# Altium footprint library 杂项库.PcbLib: 585 footprints (part 32 of 37)
Each footprint in its own frame and in the unit in brackets; x right, y up, seen from the top. Pads: shape width x height; smd on the part's side, far side on the other; paste and mask are expansions set on the pad; w line width, h text height; cw(c..) or ccw(c..) is an arc to the next point about the centre after c.
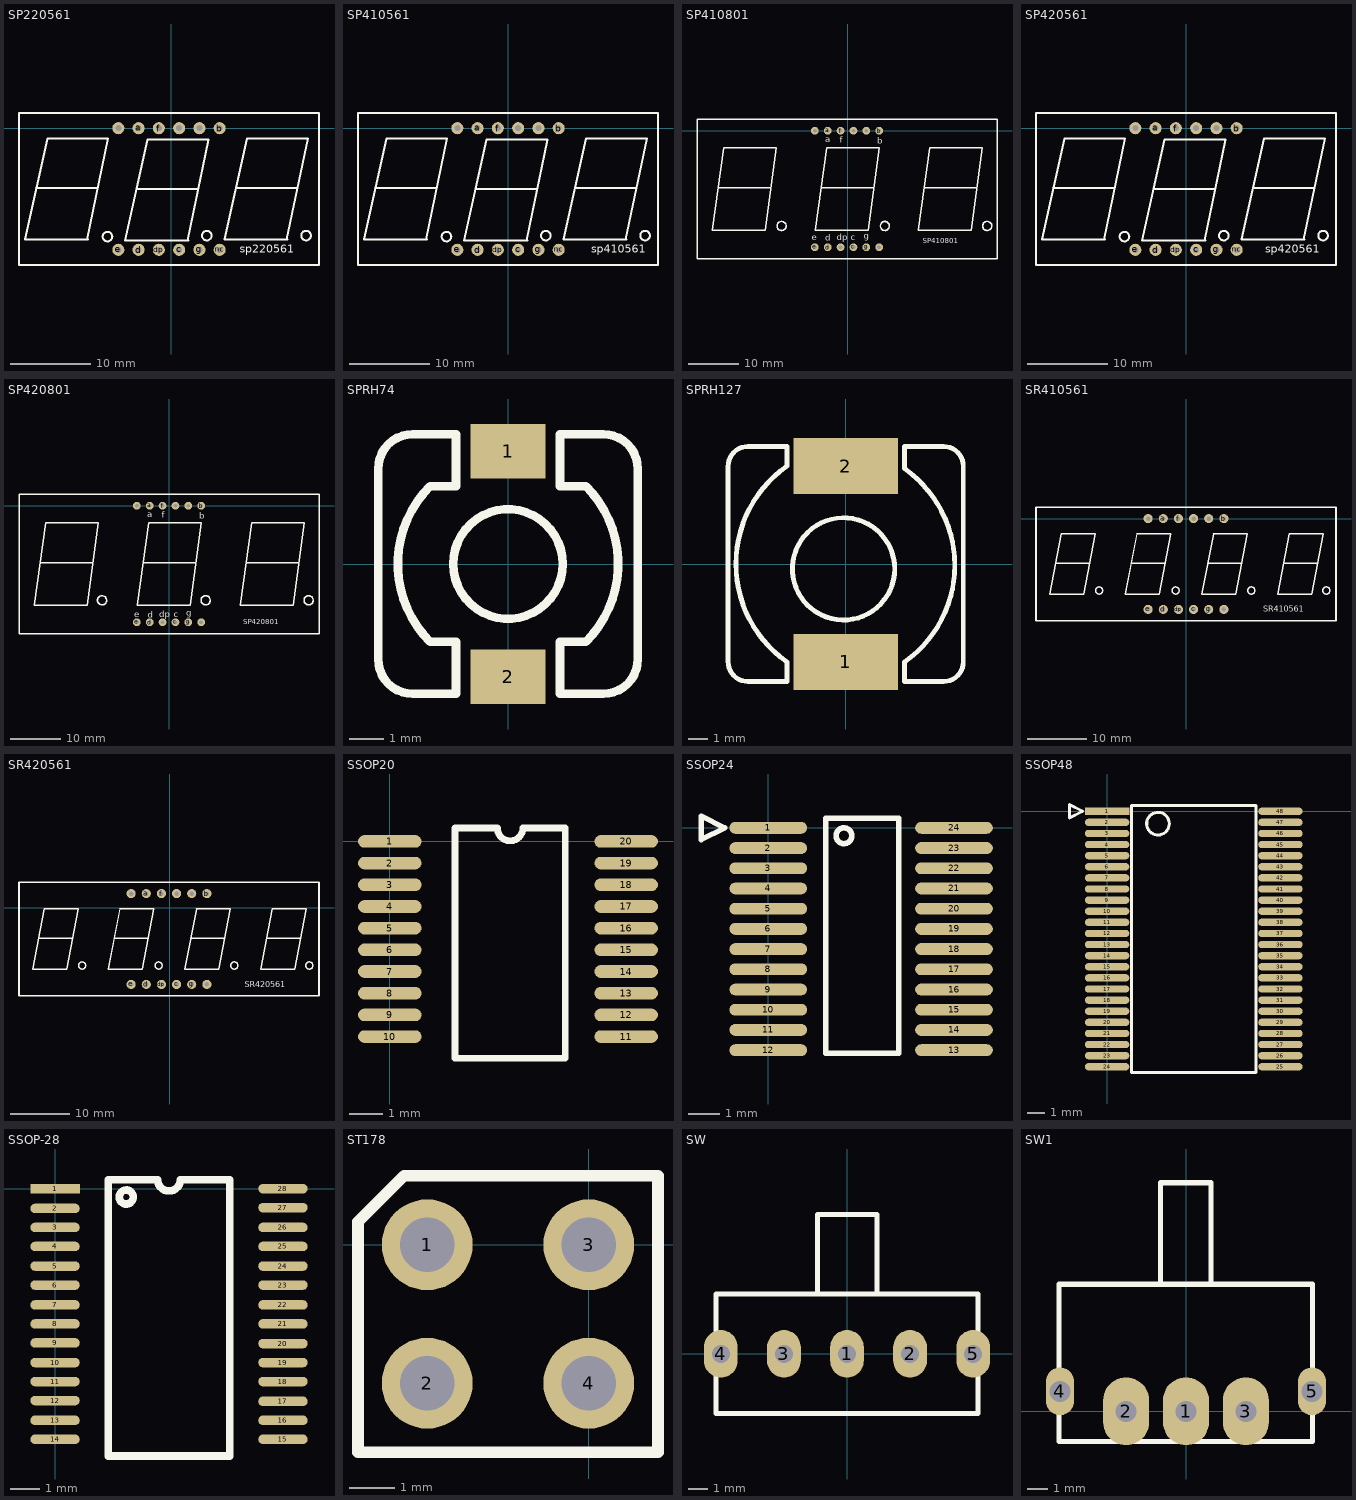
[diagram p31: the footprints below, top view; thin cyan lines are the x and y axes]

## SP220561 [mil]
pads (12):
  round 60 hole 30: a(-160,0) b(240,0) c(40,-600) com1(-260,0) com2(40,0) com3(140,0) d(-160,-600) dp(-60,-600) e(-260,-600) f(-60,0) g(140,-600) nc(240,-600)
Top Overlay:
  circle w10: c-313.62,-535 r23.62
  circle w10: c176.38,-530 r23.62
  circle w10: c666.38,-530 r23.62
  lines w10: -721.34,-550 -610,-50 -310,-50 -414.38,-550 ; -718.66,-550 -410,-550 ; -665,-295 -365,-295 ; -226.34,-555 -115,-55 185,-55 80.62,-555 ; -223.66,-555 85,-555 ; -170,-300 130,-300 ; 263.66,-550 375,-50 675,-50 570.62,-550 ; 266.34,-550 575,-550 ; 320,-295 620,-295 ; -750.16,-674.02 730.16,-674.02 730.16,74.02 -750.16,74.02 -750.16,-674.02
  text "sp220561" at 340,-615 h39.37

## SP410561 [mil]
pads (12):
  round 60 hole 30: a(-150,0) b(250,0) c(50,-600) com1(-250,0) com2(50,0) com3(150,0) d(-150,-600) dp(-50,-600) e(-250,-600) f(-50,0) g(150,-600) nc(250,-600)
Top Overlay:
  circle w10: c-303.62,-535 r23.62
  circle w10: c186.38,-530 r23.62
  circle w10: c676.38,-530 r23.62
  lines w10: -711.34,-550 -600,-50 -300,-50 -404.38,-550 ; -708.66,-550 -400,-550 ; -655,-295 -355,-295 ; -216.34,-555 -105,-55 195,-55 90.62,-555 ; -213.66,-555 95,-555 ; -160,-300 140,-300 ; 273.66,-550 385,-50 685,-50 580.62,-550 ; 276.34,-550 585,-550 ; 330,-295 630,-295 ; -740.16,-674.02 740.16,-674.02 740.16,74.02 -740.16,74.02 -740.16,-674.02
  text "sp410561" at 410,-615 h39.37

## SP410801 [mil]
pads (12):
  round 60 hole 30: a(-155,0) b(245,0) c(45,-905.51) com1(-255,0) com2(45,0) com3(145,0) d(-155,-905.51) dp(-55,-905.51) e(-255,-905.51) f(-55,0) g(145,-905.51) nc(245,-905.51)
Top Overlay:
  circle w10: c-513.08,-740 r35.43
  circle w10: c289.57,-740 r35.43
  circle w10: c1084.57,-740 r35.43
  lines w8: -1007.2,-439.37 -1003.26,-443.31 ; -597.75,-443.31 -593.81,-439.37 ; -207.2,-439.37 -203.26,-443.31 ; 202.25,-443.31 206.19,-439.37 ; 592.8,-439.37 596.74,-443.31 ; 1002.25,-443.31 1006.19,-439.37
  lines w10: -1003.26,-443.31 -597.75,-443.31 ; -203.26,-443.31 202.25,-443.31 ; 596.74,-443.31 1002.25,-443.31 ; -1170.35,-994.1 -1170.35,88.58 1160.35,88.58 1160.35,-994.1 -1170.35,-994.1 ; -1050.5,-774.02 -641.05,-774.02 -554.44,-132.28 -963.89,-132.28 -1050.5,-774.02 ; -250.5,-774.02 158.94,-774.02 245.56,-132.28 -163.89,-132.28 -250.5,-774.02 ; 549.5,-774.02 958.95,-774.02 1045.56,-132.28 636.11,-132.28 549.5,-774.02
  text "a" at -175,-90 h47.24
  text "f" at -60,-95 h47.24
  text "b" at 230,-100 h47.24
  text "SP410801" at 585,-875 h40
  text "g" at 125,-840 h47.24
  text "c" at 25,-850 h47.24
  text "dp" at -85,-850 h47.24
  text "d" at -175,-855 h47.24
  text "e" at -280,-850 h47.24

## SP420561 [mil]
pads (12):
  round 60 hole 30: a(-150,0) b(250,0) c(50,-600) com1(-250,0) com2(50,0) com3(150,0) d(-150,-600) dp(-50,-600) e(-250,-600) f(-50,0) g(150,-600) nc(250,-600)
Top Overlay:
  circle w10: c676.38,-530 r23.62
  circle w10: c186.38,-530 r23.62
  circle w10: c-303.62,-535 r23.62
  lines w10: -711.34,-550 -600,-50 -300,-50 -404.38,-550 ; -708.66,-550 -400,-550 ; -655,-295 -355,-295 ; -216.34,-555 -105,-55 195,-55 90.62,-555 ; -213.66,-555 95,-555 ; -160,-300 140,-300 ; 273.66,-550 385,-50 685,-50 580.62,-550 ; 276.34,-550 585,-550 ; 330,-295 630,-295 ; -740.16,-674.02 -740.16,74.02 740.16,74.02 740.16,-674.02 -740.16,-674.02
  text "sp420561" at 390,-615 h39.76

## SP420801 [mil]
pads (12):
  round 60 hole 30: a(-150,0) b(250,0) c(50,-905.51) com1(-250,0) com2(50,0) com3(150,0) d(-150,-905.51) dp(-50,-905.51) e(-250,-905.51) f(-50,0) g(150,-905.51) nc(250,-905.51)
Top Overlay:
  circle w10: c-520.43,-735 r35.43
  circle w10: c284.57,-735 r35.43
  circle w10: c1084.57,-735 r35.43
  lines w8: -1002.2,-439.37 -998.26,-443.31 ; -592.75,-443.31 -588.81,-439.37 ; -202.2,-439.37 -198.26,-443.31 ; 207.25,-443.31 211.19,-439.37 ; 597.8,-439.37 601.74,-443.31 ; 1007.25,-443.31 1011.19,-439.37
  lines w10: -998.26,-443.31 -592.75,-443.31 ; -198.26,-443.31 207.25,-443.31 ; 601.74,-443.31 1007.25,-443.31 ; -1165.35,-994.1 1165.35,-994.1 1165.35,88.58 -1165.35,88.58 -1165.35,-994.1 ; -1045.5,-774.02 -958.89,-132.28 -549.44,-132.28 -636.05,-774.02 -1045.5,-774.02 ; -245.5,-774.02 -158.89,-132.28 250.56,-132.28 163.94,-774.02 -245.5,-774.02 ; 554.5,-774.02 641.11,-132.28 1050.56,-132.28 963.95,-774.02 554.5,-774.02
  text "SP420801" at 575,-920 h40
  text "e" at -270,-865 h47.24
  text "d" at -165,-870 h47.24
  text "dp" at -75,-865 h47.24
  text "c" at 35,-865 h47.24
  text "g" at 135,-855 h47.24
  text "b" at 235,-100 h47.24
  text "f" at -55,-95 h47.24
  text "a" at -170,-90 h47.24

## SPRH74 [mm]
pads (2):
  rect 2.2x1.6 smd: 1(0,3.302) 2(0,-3.302)
Top Overlay:
  circle w0.254: c0,0 r1.606
  lines w0.254: -3.81,-2.794 ccw(c-2.794,-2.794) -2.794,-3.81 -1.524,-3.81 -1.524,-2.286 -2.286,-2.286 cw(c0,0) -2.286,2.286 -1.524,2.286 -1.524,3.81 -2.794,3.81 ccw(c-2.794,2.794) -3.81,2.794 -3.81,-2.794 ; 1.524,-3.81 2.794,-3.81 ccw(c2.794,-2.794) 3.81,-2.794 3.81,2.794 ccw(c2.794,2.794) 2.794,3.81 1.524,3.81 1.524,2.286 2.286,2.286 cw(c0,0) 2.286,-2.286 1.524,-2.286 1.524,-3.81

## SPRH127 [mm]
pads (2):
  rect 5.4x2.9 smd: 1(0,-5.08) 2(0,5.08)
Top Overlay:
  circle w0.254: c-0.112,-0.254 r2.652
  lines w0.254: -6.096,-5.08 ccw(c-5.08,-5.08) -5.08,-6.096 -3.048,-6.096 -3.048,-5.08 cw(c0.508,0) -3.048,5.08 -3.048,6.096 -5.08,6.096 ccw(c-5.08,5.08) -6.096,5.08 -6.096,-5.08 ; 3.048,-6.096 5.08,-6.096 ccw(c5.08,-5.08) 6.096,-5.08 6.096,5.08 ccw(c5.08,5.08) 5.08,6.096 3.048,6.096 3.048,4.943 cw(c-0.46,-0.069) 3.048,-5.08 3.048,-6.096

## SR410561 [mil]
pads (12):
  round 60 hole 30: a(-150,0) b(250,0) c(50,-600) com1(-250,0) com2(50,0) com3(150,0) com4(250,-600) d(-150,-600) dp(-50,-600) e(-250,-600) f(-50,0) g(150,-600)
Top Overlay:
  circle w10: c-573.62,-475 r23.62
  circle w10: c-68.62,-475 r23.62
  circle w10: c431.38,-475 r23.62
  circle w10: c926.38,-475 r23.62
  lines w10: -854.33,-295 -640,-295 ; -358.27,-295 -140,-295 ; 145.67,-295 365,-295 ; 645.67,-295 865,-295 ; -990.16,-674.02 990.16,-674.02 990.16,74.02 -990.16,74.02 -990.16,-674.02 ; -900,-500 -823.46,-100 -600,-100 -676.54,-500 -900,-500 ; -400,-500 -323.45,-100 -100,-100 -176.54,-500 -400,-500 ; 105,-500 181.54,-100 405,-100 328.45,-500 105,-500 ; 605,-500 681.54,-100 905,-100 828.46,-500 605,-500
  text "SR410561" at 510,-615 h39.37

## SR420561 [mil]
pads (12):
  round 60 hole 30: a(-155,95) b(245,95) c(45,-505) com1(-255,95) com2(45,95) com3(145,95) com4(245,-505) d(-155,-505) dp(-55,-505) e(-255,-505) f(-55,95) g(145,-505)
Top Overlay:
  circle w10: c921.38,-380 r23.62
  circle w10: c426.38,-380 r23.62
  circle w10: c-73.62,-380 r23.62
  circle w10: c-578.62,-380 r23.62
  lines w10: -859.33,-200 -645,-200 ; -363.27,-200 -145,-200 ; 140.67,-200 360,-200 ; 640.67,-200 860,-200 ; -995.16,-579.02 -995.16,169.02 985.16,169.02 985.16,-579.02 -995.16,-579.02 ; -905,-405 -681.54,-405 -605,-5 -828.46,-5 -905,-405 ; -405,-405 -181.54,-405 -105,-5 -328.45,-5 -405,-405 ; 100,-405 323.45,-405 400,-5 176.54,-5 100,-405 ; 600,-405 823.46,-405 900,-5 676.54,-5 600,-405
  text "SR420561" at 495,-525 h39.37

## SSOP20 [mm]
pads (20):
  oval 1.905x0.38 smd: 1(0,0) 2(0,-0.65) 3(0,-1.3) 4(0,-1.95) 5(0,-2.6) 6(0,-3.25) 7(0,-3.9) 8(0,-4.55) 9(0,-5.2) 10(0,-5.85) 11(7.087,-5.85) 12(7.087,-5.2) 13(7.087,-4.55) 14(7.087,-3.9) 15(7.087,-3.25) 16(7.087,-2.6) 17(7.087,-1.95) 18(7.087,-1.3) 19(7.087,-0.65) 20(7.087,0)
Top Overlay:
  lines w0.203: 1.956,-6.502 1.956,0.398 3.226,0.398 ccw(c3.607,0.398) 3.988,0.398 5.258,0.398 5.258,-6.502 1.956,-6.502

## SSOP24 [mm]
pads (24):
  oval 2.5x0.381 smd: 1(0,0) 2(0,-0.65) 3(0,-1.3) 4(0,-1.95) 5(0,-2.6) 6(0,-3.25) 7(0,-3.9) 8(0,-4.55) 9(0,-5.2) 10(0,-5.85) 11(0,-6.5) 12(0,-7.15) 13(5.975,-7.15) 14(5.975,-6.5) 15(5.975,-5.85) 16(5.975,-5.2) 17(5.975,-4.55) 18(5.975,-3.9) 19(5.975,-3.25) 20(5.975,-2.6) 21(5.975,-1.95) 22(5.975,-1.3) 23(5.975,-0.65) 24(5.975,0)
Top Overlay:
  circle w0.178: c2.434,-0.254 r0.254
  lines w0.178: -2.159,-0.381 -1.397,0 -2.159,0.381 -2.159,-0.381 ; 1.852,-7.245 4.198,-7.245 4.198,0.315 1.852,0.315 1.852,-7.245

## SSOP48 [mm]
pads (48):
  rect 2.54x0.42 smd: 1(0,0)
  oval 2.54x0.42 smd: 2(0,-0.635) 3(0,-1.27) 4(0,-1.905) 5(0,-2.54) 6(0,-3.175) 7(0,-3.81) 8(0,-4.445) 9(0,-5.08) 10(0,-5.715) 11(0,-6.35) 12(0,-6.985) 13(0,-7.62) 14(0,-8.255) 15(0,-8.89) 16(0,-9.525) 17(0,-10.16) 18(0,-10.795) 19(0,-11.43) 20(0,-12.065) 21(0,-12.7) 22(0,-13.335) 23(0,-13.97) 24(0,-14.605) 25(9.906,-14.605) 26(9.906,-13.97) 27(9.906,-13.335) 28(9.906,-12.7) 29(9.906,-12.065) 30(9.906,-11.43) 31(9.906,-10.795) 32(9.906,-10.16) 33(9.906,-9.525) 34(9.906,-8.89) 35(9.906,-8.255) 36(9.906,-7.62) 37(9.906,-6.985) 38(9.906,-6.35) 39(9.906,-5.715) 40(9.906,-5.08) 41(9.906,-4.445) 42(9.906,-3.81) 43(9.906,-3.175) 44(9.906,-2.54) 45(9.906,-1.905) 46(9.906,-1.27) 47(9.906,-0.635) 48(9.906,0)
Top Overlay:
  circle w0.178: c2.908,-0.711 r0.648
  lines w0.178: -2.159,-0.381 -2.159,0.381 -1.397,0 -2.159,-0.381 ; 1.397,-14.922 8.509,-14.922 8.509,0.318 1.397,0.318 1.397,-14.922

## SSOP-28 [mil]
pads (28):
  rect 65x12.5 smd: 1(0,0)
  oval 65x12.5 smd: 2(0,-26) 3(0,-51) 4(0,-76) 5(0,-102) 6(0,-127) 7(0,-153) 8(0,-178) 9(0,-203) 10(0,-229) 11(0,-254) 12(0,-279) 13(0,-305) 14(0,-330) 15(300,-330) 16(300,-305) 17(300,-280) 18(300,-254) 19(300,-229) 20(300,-204) 21(300,-178) 22(300,-153) 23(300,-127) 24(300,-102) 25(300,-76) 26(300,-51) 27(300,-25) 28(300,0)
Top Overlay:
  circle w10: c93.78,-11 r9.22
  lines w10: 70,-352 70,12 135,12 ccw(c150,12) 165,12 230,12 230,-352 70,-352

## ST178 [mm]
pads (4):
  round 2 hole 1.2: 1(-3.556,0) 2(-3.556,-3.048) 3(0,0) 4(0,-3.048)
Top Overlay:
  lines w0.254: -5.08,-4.572 -5.08,0.508 -4.064,1.524 1.524,1.524 1.524,-4.572 -5.08,-4.572

## SW [mm]
pads (5):
  oval 1.7x2.4 hole 0.9: 1(0,0) 2(3.175,0) 3(-3.175,0) 4(-6.35,0) 5(6.35,0)
Top Overlay:
  lines w0.1: -6.596,-0.795 -6.596,0.805 -5.996,0.805 -5.996,-0.795 -6.596,-0.795 ; 6.004,-0.795 6.004,0.805 6.604,0.805 6.604,-0.795 6.004,-0.795
  lines w0.25: -6.596,-2.995 6.604,-2.995 6.604,3.005 -6.596,3.005 -6.596,-2.995 ; -1.496,3.005 1.504,3.005 1.504,7.005 -1.496,7.005 -1.496,3.005

## SW1 [mm]
pads (5):
  oval 2.3x3.4 hole 1.05: 1(0,0) 2(-3,0) 3(3,0)
  oval 1.4x2.4 hole 1.05: 4(-6.31,1) 5(6.31,1)
Top Overlay:
  lines w0.254: -1.28,6.362 -1.28,11.442 1.26,11.442 1.26,6.362 ; -6.36,-1.512 6.34,-1.512 6.34,6.362 -6.36,6.362 -6.36,-1.512